# EAGLE library part WSSFM10 (library WiSOL)
WiSOL WSSFM10 Sigfox Module with PCB Footprint to enable handsolder
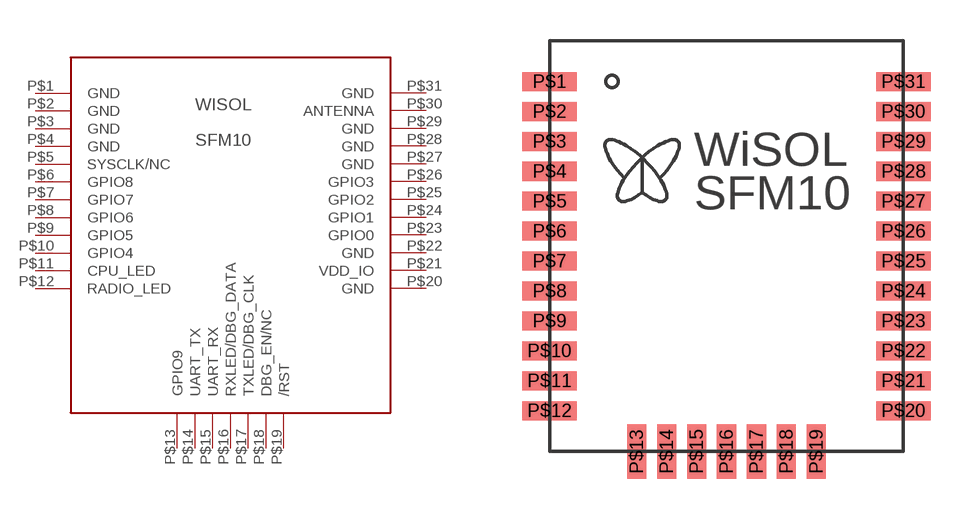
[diagram p0: symbol with the pads of WSSFM10; footprint WSSFM10]

Designator prefix SFM

## WSSFM10'HANDSOLDER'  [WSSFM10]
P$1  GND  sup
P$2  GND  sup
P$3  GND  sup
P$4  GND  sup
P$5  SYSCLK/NC  nc
P$6  GPIO8
P$7  GPIO7
P$8  GPIO6
P$9  GPIO5
P$10  GPIO4
P$11  CPU_LED  out
P$12  RADIO_LED  out
P$13  GPIO9
P$14  UART_TX  out
P$15  UART_RX  in
P$16  RXLED/DBG_DATA  out
P$17  TXLED/DBG_CLK  out
P$18  DBG_EN/NC  nc
P$19  /RST  in
P$20  GND  sup
P$21  VDD_IO  sup
P$22  GND  sup
P$23  GPIO0
P$24  GPIO1
P$25  GPIO2
P$26  GPIO3
P$27  GND  sup
P$28  GND  sup
P$29  GND  sup
P$30  ANTENNA  out
P$31  GND  sup

## Footprint WSSFM10 (pad centres in mm)
longer pads to enable handsolder
smd 2 x 0.7: P$1 -6.5,6; P$2 -6.5,4.9; P$3 -6.5,3.8; P$4 -6.5,2.7; P$5 -6.5,1.6; P$6 -6.5,0.5; P$7 -6.5,-0.6; P$8 -6.5,-1.7; P$9 -6.5,-2.8; P$10 -6.5,-3.9; P$11 -6.5,-5; P$12 -6.5,-6.1; P$20 6.5,-6.1; P$21 6.5,-5; P$22 6.5,-3.9; P$23 6.5,-2.8; P$24 6.5,-1.7; P$25 6.5,-0.6; P$26 6.5,0.5; P$27 6.5,1.6; P$28 6.5,2.7; P$29 6.5,3.8; P$30 6.5,4.9; P$31 6.5,6
smd 0.7 x 2: P$13 -3.3,-7.6; P$14 -2.2,-7.6; P$15 -1.1,-7.6; P$16 0,-7.6; P$17 1.1,-7.6; P$18 2.2,-7.6; P$19 3.3,-7.6